# Altium schematic symbol library Power Connectors.SchLib: 1 symbol
Pins are listed as number, name and electrical type; pins without a type are passive.

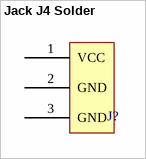
[diagram p0: symbol Jack J4 Solder]

## Jack J4 Solder
designator J?  (value not drawn)
Power Barrel Connector Jack 2.10mm ID (0.083"), 5.50mm OD (0.217") Through Hole, Right Angle; Manufacturer 1: CUI Inc.; Manufacturer 1 PN: PJ-002A; Supplier 1: Digi-Key; Supplier 2: Arrow; Supplier 3: Mouser; Supplier Part Number 1: CP-002A-ND; Supplier Part Number 2: PJ-002A; Supplier Part Number 3: 490-PJ-002A
footprint Jack J4 Solder (Power Barrel Connector Jack 2.10mm ID (0.083"), 5.50mm OD (0.217") Through Hole, Right Angle)
pins: 1 VCC (power), 2 GND (power), 3 GND (power)